# Altium schematic symbol library BMP.SchLib: 1 symbol
Pins are listed as number, name and electrical type; pins without a type are passive.

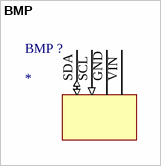
[diagram p0: symbol BMP]

## BMP
designator BMP ?
footprint BMP
pins: GND (power), SCL (in), SDA (io), VIN (power)